# Altium schematic symbol library Connector-5557.SchLib: 1 symbol
Pins are listed as number, name and electrical type; pins without a type are passive.

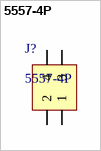
[diagram p0: symbol 5557-4P]

## 5557-4P
designator J?
线对板/线对线连接器; Manufacturer_Name: HC(虹成电子); Manufacturer_Part_Number: HC-5557-4.2-2x2AW; LCSC: C19273902; Manufacturer_Name_1: *; Manufacturer_Part_Number_1: *
footprint 5557-2X2-AW (HC(虹成电子)   HC-5557-4.2-2x2AW)
pins: 1, 2, 3, 4